# EAGLE library part PCM5102A (library common)
PCM5102A - 32-Bit, 384KHz stereo DAC with I2S PCM interface.
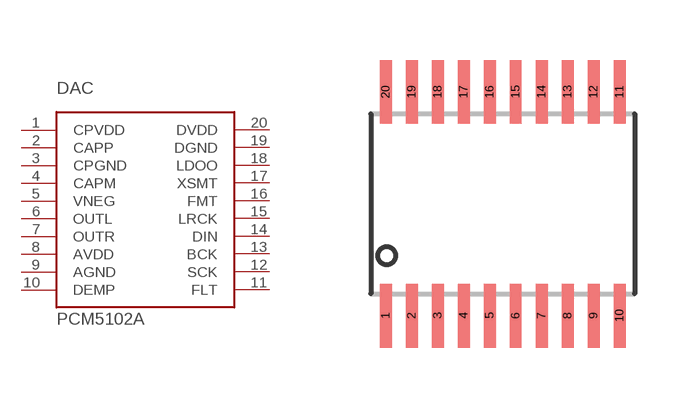
[diagram p17: symbol with the pads of R-PDSO-G20_65; footprint R-PDSO-G20_65]

Designator prefix DAC

## PCM5102A  [R-PDSO-G20_65]
1  CPVDD
2  CAPP
3  CPGND
4  CAPM
5  VNEG
6  OUTL
7  OUTR
8  AVDD
9  AGND
10  DEMP
11  FLT
12  SCK
13  BCK
14  DIN
15  LRCK
16  FMT
17  XSMT
18  LDOO
19  DGND
20  DVDD

## Footprint R-PDSO-G20_65 (pad centres in mm)
smd 0.3 x 1.6: 1 -2.925,-2.8; 2 -2.275,-2.8; 3 -1.625,-2.8; 4 -0.975,-2.8; 5 -0.325,-2.8; 6 0.325,-2.8; 7 0.975,-2.8; 8 1.625,-2.8; 9 2.275,-2.8; 10 2.925,-2.8; 11 2.925,2.8; 12 2.275,2.8; 13 1.625,2.8; 14 0.975,2.8; 15 0.325,2.8; 16 -0.325,2.8; 17 -0.975,2.8; 18 -1.625,2.8; 19 -2.275,2.8; 20 -2.925,2.8